# EAGLE library part POWER.L1.T (library Bergsonne Tiles)
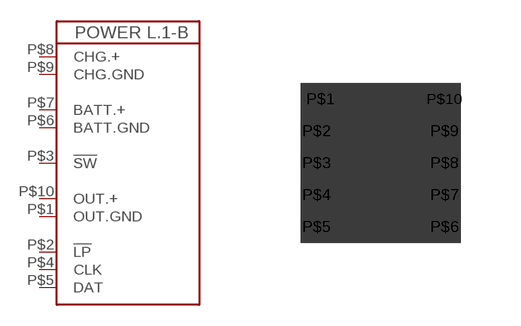
[diagram p4: symbol with the pads of T44-10; footprint T44-10]

Designator prefix -

## POWER.L1.T-  [T44-10]
P$1  OUT.GND
P$2  !LP!
P$3  !SW!
P$4  CLK
P$5  DAT
P$6  BATT.GND
P$7  BATT.+
P$8  CHG.+
P$9  CHG.GND
P$10  OUT.+

## Footprint T44-10 (pad centres in mm)
smd 1 x 0.4: P$1 -1.5,1.6
smd 0.8 x 0.4: P$2 -1.6,0.8; P$3 -1.6,0; P$4 -1.6,-0.8; P$5 -1.6,-1.6; P$6 1.6,-1.6; P$7 1.6,-0.8; P$8 1.6,0; P$9 1.6,0.8; P$10 1.6,1.6